# EAGLE library part DRV8834PWP (library DRV8834PWP)
2.2A Low Voltage Stepper w/ 32-step Indexer or Dual Brushed DC Motor Driver (Indexer or PH/EN Ctrl) 24-HTSSOP -40 to 85 Check availability <https://pricing.snapeda.com/parts/DRV8834PWP/Texas%20Instruments/view-part?ref=eda>
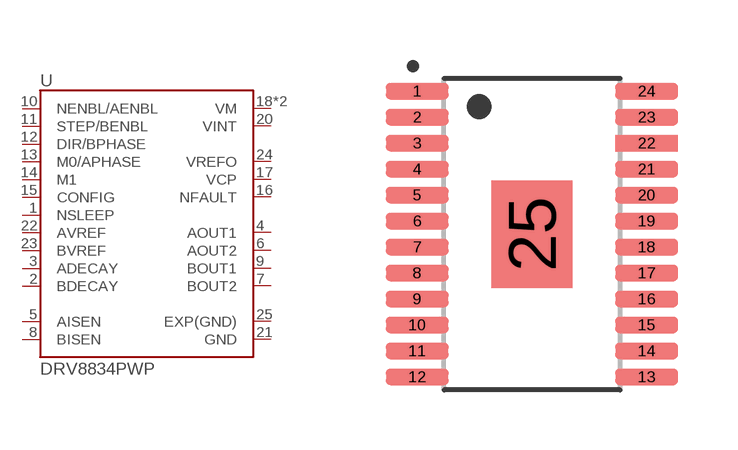
[diagram p0: symbol with the pads of SOP65P640X120-25N; footprint SOP65P640X120-25N]

Designator prefix U

## DRV8834PWP (Availability: In Stock; Description: 11-V, 1.5-A, dual H-bridge or stepper motor driver with 1/32 microstep indexer; MF: Texas Instruments; MP: DRV8834PWP; Package: HTSSOP-24 Texas Instruments; Price: None; Purchase-URL: https://pricing.snapeda.com/search?q=DRV8834PWP&ref=eda)  [SOP65P640X120-25N]
1  NSLEEP  in
2  BDECAY  in
3  ADECAY  in
4  AOUT1  out
5  AISEN
6  AOUT2  out
7  BOUT2  out
8  BISEN
9  BOUT1  out
10  NENBL/AENBL  in
11  STEP/BENBL  in
12  DIR/BPHASE  in
13  M0/APHASE  in
14  M1  in
15  CONFIG  in
16  NFAULT  out
17  VCP  out
18  VM  pwr
19  VM  pwr
20  VINT  pwr
21  GND  pwr
22  AVREF  in
23  BVREF  in
24  VREFO  out
25  EXP(GND)  pwr

## Footprint SOP65P640X120-25N (pad centres in mm)
smd 1.57 x 0.41: 1 -2.87,3.575; 2 -2.87,2.925; 3 -2.87,2.275; 4 -2.87,1.625; 5 -2.87,0.975; 6 -2.87,0.325; 7 -2.87,-0.325; 8 -2.87,-0.975; 9 -2.87,-1.625; 10 -2.87,-2.275; 11 -2.87,-2.925; 12 -2.87,-3.575; 13 2.87,-3.575; 14 2.87,-2.925; 15 2.87,-2.275; 16 2.87,-1.625; 17 2.87,-0.975; 18 2.87,-0.325; 19 2.87,0.325; 20 2.87,0.975; 21 2.87,1.625; 22 2.87,2.275; 23 2.87,2.925; 24 2.87,3.575
smd 2.025 x 2.68: 25 0,0